# EAGLE library part MCP1710 (library MCP1710T-piggy)
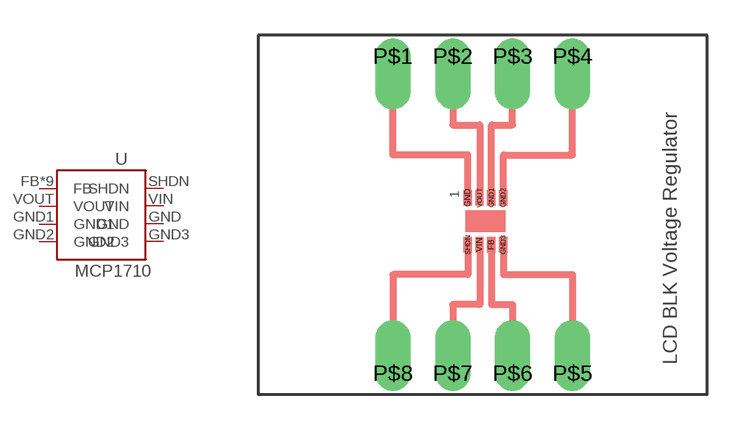
[diagram p138: symbol with the pads of DFN-2X2; footprint DFN-2X2]

Designator prefix -

## MCP1710  [DFN-2X2]
FB  FB  in
GND  GND  pas
GND1  GND1  pas
GND2  GND2  pas
GND3  GND3  pas
P$1  FB  in
P$2  FB  in
P$3  FB  in
P$4  FB  in
P$5  FB  in
P$6  FB  in
P$7  FB  in
P$8  FB  in
SHDN  SHDN  in
VIN  VIN  in
VOUT  VOUT  out

## Footprint DFN-2X2 (pad centres in mm)
smd 0.35 x 0.65: FB 1,0; GND 0,2; GND1 1,2; GND2 1.5,2; GND3 1.5,0; SHDN 0,0; VIN 0.5,0; VOUT 0.5,2
drill 1 offset: P$1 -3.175,8.001; P$2 -0.635,8.001; P$3 1.905,8.001; P$4 4.445,8.001; P$5 4.445,-5.461; P$6 1.905,-5.461; P$7 -0.635,-5.461; P$8 -3.175,-5.461